# EAGLE library part AP65111AWU-7 (library AP65111AWU-7)
None
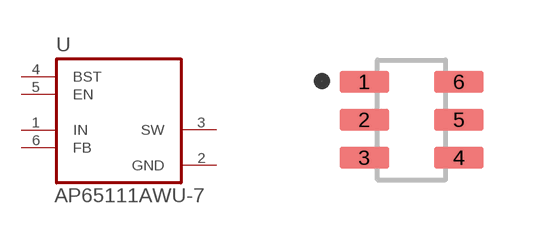
[diagram p0: symbol with the pads of SOT95P280X100-6N; footprint SOT95P280X100-6N]

Designator prefix U

## AP65111AWU-7 (Description: Dcdc Conv Hv Buck Tsot26 t&r 3k; Digi-Key_Part_Number: AP65111AWU-7DICT-ND; Digi-Key_Purchase_URL: https://www.digikey.jp/product-detail/en/diodes-incorporated/AP65111AWU-7/AP65111AWU-7DICT-ND/7652826?utm_source=snapeda&utm_medium=aggregator&utm_campaign=symbol; MF: Diodes Inc.; MP: AP65111AWU-7; Package: TSOT-23-6 Diodes Inc.)  [SOT95P280X100-6N]
1  IN  in
2  GND  pwr
3  SW  out
4  BST  in
5  EN  in
6  FB  in

## Footprint SOT95P280X100-6N (pad centres in mm)
smd 1.24 x 0.55: 1 -1.185,0.95; 2 -1.185,0; 3 -1.185,-0.95; 4 1.185,-0.95; 5 1.185,0; 6 1.185,0.95